# EAGLE library part 62104421921 (library Wuerth_Elektronik_eiCan_Pin_&_Socked_Headers_v1.3)
WR-PHD 2.00mm Dual SMT Pin Header, 44 Pins
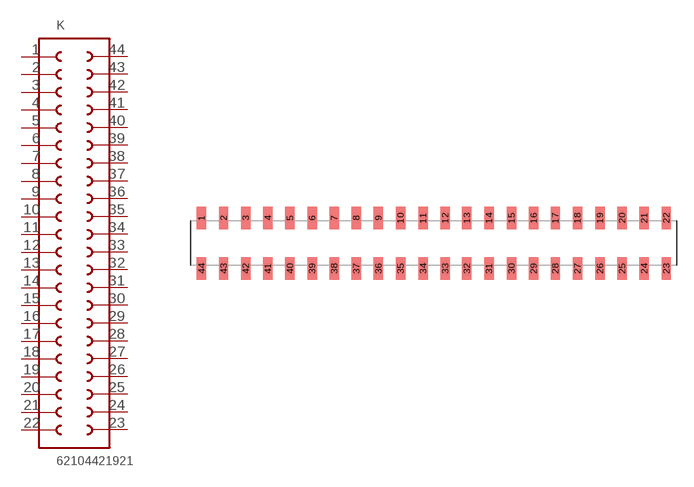
[diagram p287: symbol with the pads of 62104421921; footprint 62104421921]

Designator prefix K

## 62104421921  [62104421921]
1  1  pas
2  2  pas
3  3  pas
4  4  pas
5  5  pas
6  6  pas
7  7  pas
8  8  pas
9  9  pas
10  10  pas
11  11  pas
12  12  pas
13  13  pas
14  14  pas
15  15  pas
16  16  pas
17  17  pas
18  18  pas
19  19  pas
20  20  pas
21  21  pas
22  22  pas
23  23  pas
24  24  pas
25  25  pas
26  26  pas
27  27  pas
28  28  pas
29  29  pas
30  30  pas
31  31  pas
32  32  pas
33  33  pas
34  34  pas
35  35  pas
36  36  pas
37  37  pas
38  38  pas
39  39  pas
40  40  pas
41  41  pas
42  42  pas
43  43  pas
44  44  pas

## Footprint 62104421921 (pad centres in mm)
WR-PHD 2.00mm Dual SMT Pin Header, 44 Pins
smd 0.85 x 2.03: 1 -17.89,2.285; 2 -15.89,2.285; 3 -13.89,2.285; 4 -11.89,2.285; 5 -9.89,2.285; 6 -7.89,2.285; 7 -5.89,2.285; 8 -3.89,2.285; 9 -1.89,2.285; 10 0.11,2.285; 11 2.15,2.285; 12 4.15,2.285; 13 6.11,2.285; 14 8.11,2.285; 15 10.15,2.285; 16 12.15,2.285; 17 14.11,2.285; 18 16.11,2.285; 19 18.15,2.285; 20 20.15,2.285; 21 22.15,2.285; 22 24.15,2.285; 23 24.15,-2.285; 24 22.15,-2.285; 25 20.15,-2.285; 26 18.15,-2.285; 27 16.11,-2.285; 28 14.11,-2.285; 29 12.15,-2.285; 30 10.15,-2.285; 31 8.11,-2.285; 32 6.11,-2.285; 33 4.15,-2.285; 34 2.15,-2.285; 35 0.11,-2.285; 36 -1.89,-2.285; 37 -3.89,-2.285; 38 -5.89,-2.285; 39 -7.89,-2.285; 40 -9.89,-2.285; 41 -11.89,-2.285; 42 -13.89,-2.285; 43 -15.89,-2.285; 44 -17.89,-2.285